# Altium footprint library Diodos.PcbLib: 44 footprints (part 1 of 3)
Each footprint in its own frame and in the unit in brackets; x right, y up, seen from the top. Pads: shape width x height; smd on the part's side, far side on the other; paste and mask are expansions set on the pad; w line width, h text height; cw(c..) or ccw(c..) is an arc to the next point about the centre after c.
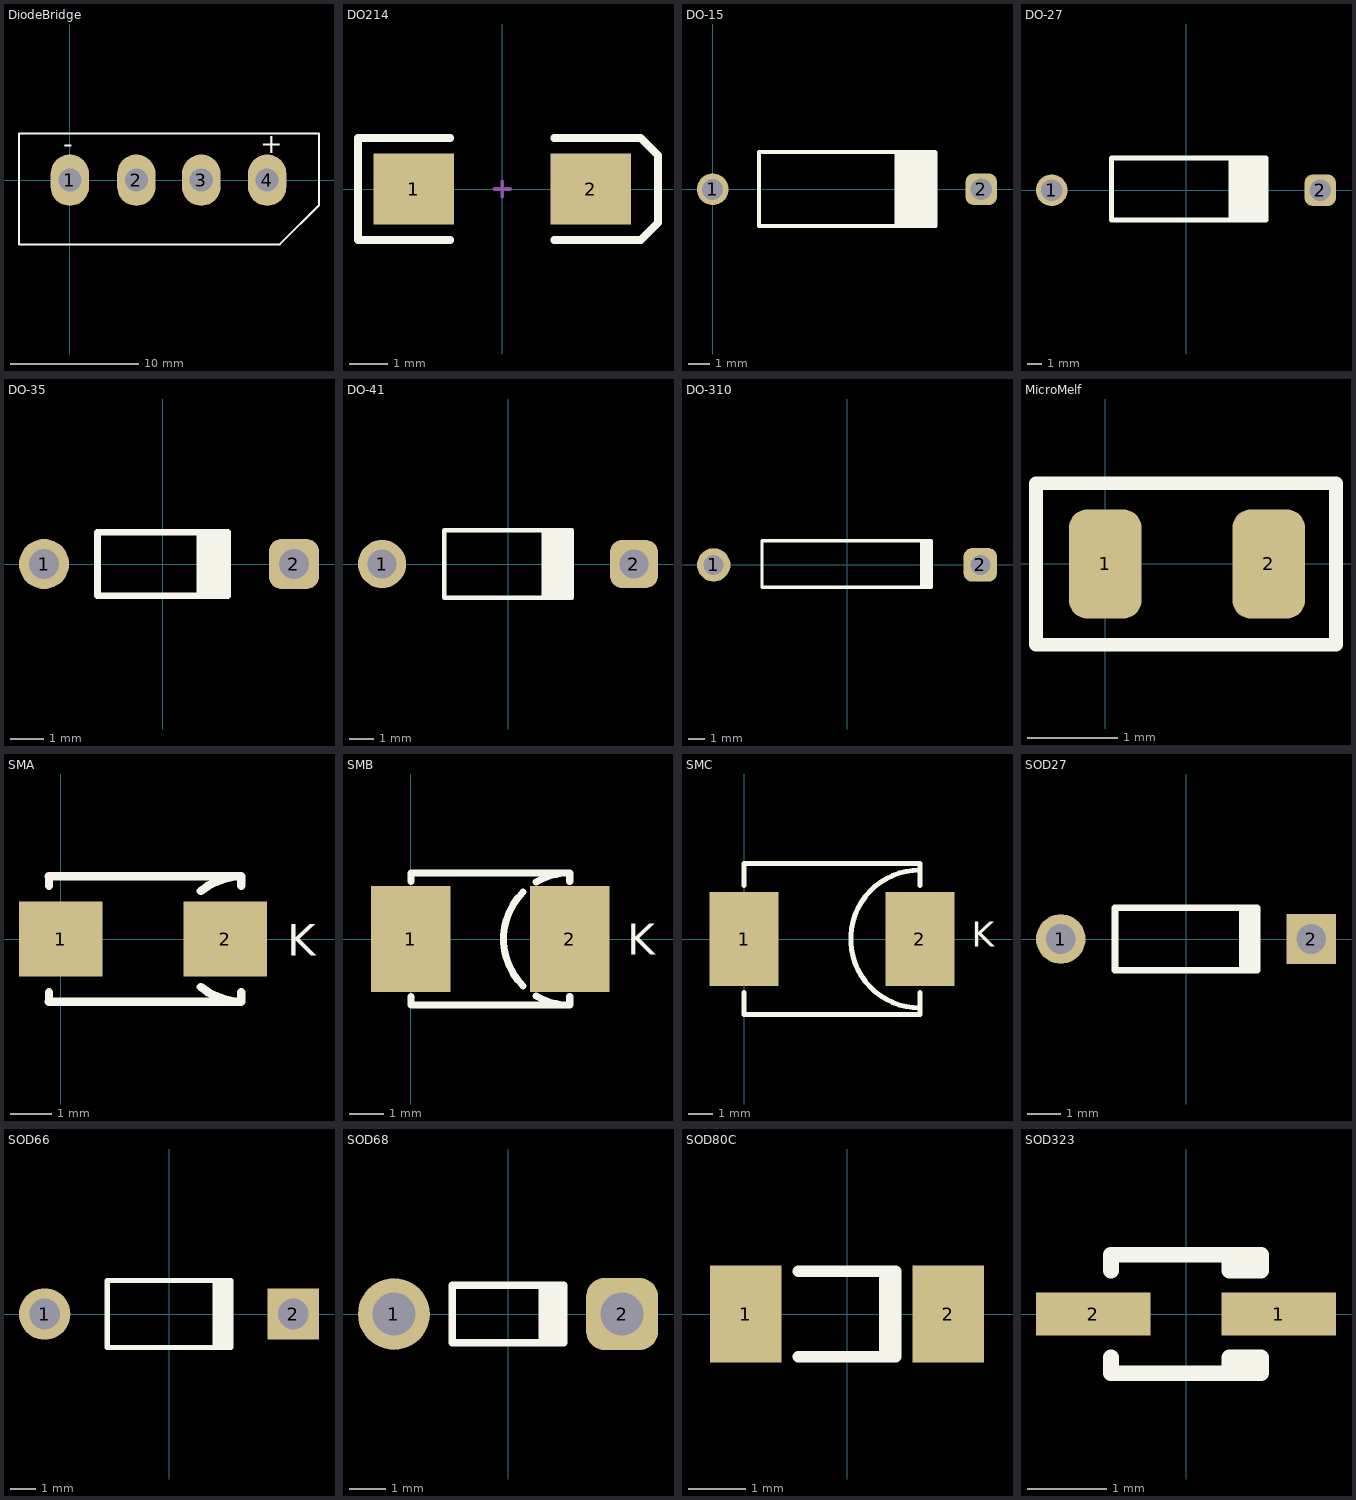
[diagram p0: the footprints below, top view; thin cyan lines are the x and y axes]

## DiodeBridge [mm]
pads (4):
  oval 3x4 hole 1.8: 1(0,0) 2(5.182,0) 3(10.236,0) 4(15.367,0)
Top Overlay:
  lines w0.152: -3.962,-5.004 16.358,-5.004 19.406,-1.956 19.406,3.632 -3.962,3.632 -3.962,-5.004
  text "-" at -0.533,2.108 h1.52
  text "+" at 14.834,2.108 h1.52
3D body: height 19.3, standoff -4.5, extent -3.878,-4.953 19.322,3.547

## DO214 [mm] "DO-214-AC/SMA; 2 C-Bend Leads; Body 5.3 x 2.6 mm, inc. leads (LxW)"
height 2.3
pads (2):
  rect 2.1x1.85 smd: 1(-2.3,0) 2(2.3,0)
Top Overlay:
  lines w0.2: -1.35,-1.325 -3.75,-1.325 -3.75,1.325 -1.35,1.325 ; 1.35,-1.325 3.6,-1.325 4.05,-0.875 4.05,0.875 3.6,1.325 1.35,1.325
Mechanical 1:
  lines w0.1: -0.2,0 0.2,0 ; 0,-0.2 0,0.2

## DO-15 [mm]
pads (2):
  round 1.5 hole 1: 1(0,0)
  rrect50% 1.5x1.5 hole 1.016: 2(12.802,0)
Top Overlay:
  rectangle: 8.661,-1.753 10.719,1.753
  lines w0.2: 10.617,-1.753 2.21,-1.753 2.21,1.778 10.592,1.778 10.617,1.753
3D body: height 3.71, standoff -1.91, extent -0.406,-1.82 13.208,1.82

## DO-27 [mm]
height 1.9
pads (2):
  round 2.2 hole 1.5: 1(-9.395,0)
  rrect50% 2.2x2.2 hole 1.5: 2(9.395,0)
Top Overlay:
  rectangle: 2.969,-2.07 5.763,2.248
  lines w0.356: 5.585,-2.07 -5.21,-2.07 -5.21,2.248 5.585,2.248
3D body: height 5.87, standoff -3.75, extent -10.073,-2.782 10.067,2.858

## DO-35 [mm] "Diode, Axial; Body 3.8 x 1.9 mm (LxDia. max), Lead Dia. 0.53 mm (max)"
height 1.9
pads (2):
  round 1.5 hole 0.9: 1(-3.55,0)
  rrect50% 1.5x1.5 hole 0.9: 2(3.931,0)
Top Overlay:
  rectangle: 1.016,-0.95 2.05,0.95
  lines w0.2: 1.95,-0.95 -1.95,-0.95 -1.95,0.95 1.95,0.95
3D body: height 2.84, standoff -0.98, extent -3.831,-1.04 4.339,0.762

## DO-41 [mm] "Diode, Axial; Body 5.2 x 2.7 mm (LxDia. max), Lead Dia. 0.86 mm (max)"
height 2.8
pads (2):
  round 2 hole 1.2: 1(-5.23,0)
  rrect50% 2x2 hole 1.2: 2(5.23,0)
Top Overlay:
  rectangle: 1.397,-1.4 2.75,1.4
  lines w0.2: 2.65,-1.4 -2.65,-1.4 -2.65,1.4 2.65,1.4
3D body: height 2.86, standoff -2.35, extent -5.68,-1.36 5.68,1.36

## DO-310 [mm]
pads (2):
  round 2 hole 1.2: 1(-7.976,0)
  rrect50% 2x2 hole 1.2: 2(7.976,0)
Top Overlay:
  rectangle: 4.356,-1.349 5.156,1.451
  lines w0.2: 5.055,-1.349 -5.088,-1.349 -5.088,1.451 5.055,1.451
3D body: height 3.3, standoff -4.2, extent -8.525,-1.473 8.475,1.527

## MicroMelf [mm]
pads (2):
  rrect50% 0.8x1.2 smd: 1(0,0) 2(1.8,0)
Top Overlay:
  lines w0.152: -0.762,-0.889 -0.762,0.889 -0.381,0.889 2.54,0.889 2.54,-0.889 -0.762,-0.889
3D body: height 1.13, standoff -0.01, extent -0.076,-0.508 1.854,0.635

## SMA [mm]
pads (2):
  rect 2x1.8 smd: 1(0,0) 2(3.937,0)
Top Overlay:
  lines w0.203: -0.282,-1.27 -0.282,-1.5 4.318,-1.5 ; -0.282,1.27 -0.282,1.5 4.318,1.5 ; 3.354,-1.149 ccw(c4.318,0) 4.318,-1.5 ; 3.354,1.149 cw(c4.318,0) 4.318,1.5 ; 4.318,-1.27 4.318,-1.5 ; 4.318,1.27 4.318,1.5
  text "K" at 5.42,-0.406 h0.76
3D body: height 2.4, standoff 0, extent -0.628,-1.321 4.572,1.279

## SMB [mil]
pads (2):
  rect 90x120 smd: 1(0,0) 2(180,0)
Top Overlay:
  lines w8: 0,-65 0,-75 180,-75 ; 0,65 0,75 180,75 ; 126.97,-53.03 cw(c180,0) 126.97,53.03 ; 142.02,-64.67 ccw(c180,0) 180,-75 ; 142.02,64.67 cw(c180,0) 180,75 ; 180,-65 180,-75 ; 180,65 180,75
  text "K" at 245,-18 h35
3D body: height 90.75, standoff 0, extent -14.6,-70 198,71.73

## SMC [mil]
pads (2):
  rect 110x150 smd: 1(0,0) 2(280,0)
Top Overlay:
  lines w8: 0,-85 0,-120 280,-120 280,-85 ; 0,85 0,120 280,120 280,85 ; 280,-110 cw(c280,0) 280,110
  text "K" at 362.98,-12.06 h40
3D body: height 90.75, standoff 0, extent -17.5,-117.28 295.5,115

## SOD27 [mm] "Diode, Axial; Body 4.3 x 1.9 mm (LxDia. max), Lead Dia. 0.56 mm (max)"
height 1.9
pads (2):
  round 1.5 hole 0.9: 1(-3.79,0)
  rect 1.5x1.5 hole 0.9: 2(3.79,0)
Top Overlay:
  rectangle: 1.6,-0.95 2.25,0.95
  lines w0.2: 2.15,-0.95 -2.15,-0.95 -2.15,0.95 2.15,0.95

## SOD66 [mm] "Diode, Axial; Body 4.8 x 2.6 mm (LxDia. max), Lead Dia. 0.81 mm (max)"
height 2.6
pads (2):
  round 2 hole 1.2: 1(-4.83,0)
  rect 2x2 hole 1.2: 2(4.83,0)
Top Overlay:
  rectangle: 1.7,-1.3 2.5,1.3
  lines w0.2: 2.4,-1.3 -2.4,-1.3 -2.4,1.3 2.4,1.3

## SOD68 [mm] "Diode, Axial; Body 3 x 1.6 mm (LxDia. max), Lead Dia. 0.55 mm (max)"
height 1.6
pads (2):
  round 2 hole 1.2: 1(-3.175,0)
  rrect50% 2x2 hole 1.2: 2(3.175,0)
Top Overlay:
  rectangle: 0.85,-0.8 1.65,0.8
  lines w0.2: 1.55,-0.8 -1.55,-0.8 -1.55,0.8 1.55,0.8
3D body: height 2.55, standoff 1.45, extent -0.698,-0.548 3.302,0.548
3D body: height 2.55, standoff 1.45, extent -3.175,-0.548 -0.175,0.548
3D body: height 3.6, standoff 0.4, extent 0.27,-1.594 1.27,1.594
3D body: height 3.6, standoff 0.4, extent -1.721,-1.594 0.279,1.594
3D body: height 2.55, standoff 1.45, extent -3.734,-0.548 -2.639,0.548
3D body: height 2.55, standoff 1.45, extent 2.766,-0.548 3.861,0.548
3D body: height 2, standoff -2, extent -3.748,-0.564 -2.653,0.533
3D body: height 2, standoff -2, extent 2.765,-0.523 3.861,0.574

## SOD80C [mm] "Metal Electrode Face (MELF) Diode; Body 3.5 x 1.6 mm (LxDia)"
height 1.6
pads (2):
  rect 1.25x1.7 smd: 1(-1.775,0) 2(1.775,0)
Top Overlay:
  lines w0.2: -0.85,-0.75 0.85,-0.75 0.85,0.75 -0.85,0.75 ; 0.66,-0.75 0.66,0.75

## SOD323 [mm] "SOD-323/SC-76; 2 Leads; Body 1.7 x 1.3 mm, (LxW)"
height 1.1
pads (2):
  rect 1.45x0.55 smd: 1(1.175,0) 2(-1.175,0)
Top Overlay:
  lines w0.2: -0.95,-0.55 -0.95,-0.75 0.95,-0.75 0.95,-0.55 0.55,-0.55 0.55,-0.75 ; -0.95,0.55 -0.95,0.75 0.95,0.75 0.95,0.55 0.55,0.55 0.55,0.75